# EAGLE library part 5008730806 (library 5008730806)
micro SD Card Connector Molex
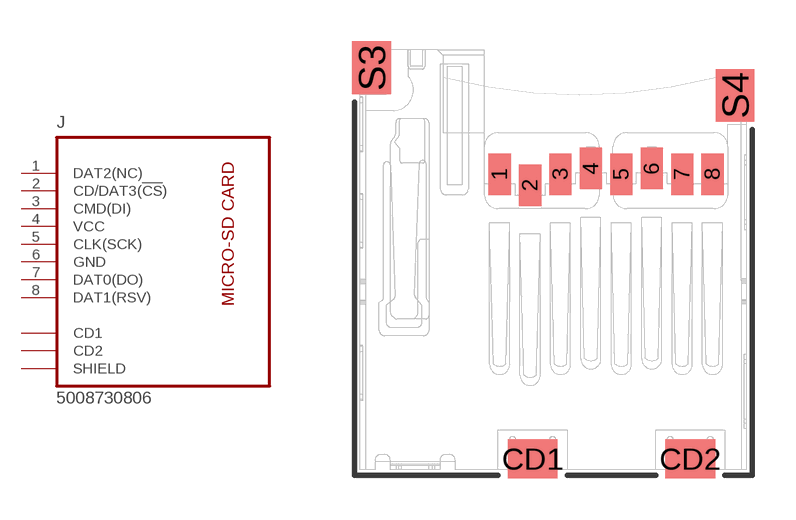
[diagram p0: symbol with the pads of 5008730806; footprint 5008730806]

Designator prefix J

## 5008730806 (Availability: Good; Description: Connector: for cards; SD Micro; push-push; SMT; gold plated; PIN: 8; MF: Molex; MP: 500873-0806; Package: None; Price: 2.47 USD)  [5008730806]
1  DAT2(NC)
2  CD/DAT3(!CS!)
3  CMD(DI)
4  VCC
5  CLK(SCK)
6  GND
7  DAT0(DO)
8  DAT1(RSV)
CD1  CD1
CD2  CD2
S3  SHIELD
S4  SHIELD

## Footprint 5008730806 (pad centres in mm)
TRANSFLSH R/A PUSH-PUSH SMD Molex
smd 0.8 x 1.5: 1 -1.94,10.7; 2 -0.84,10.3; 3 0.26,10.7; 4 1.36,10.9; 5 2.46,10.7; 6 3.56,10.9; 7 4.66,10.7; 8 5.76,10.7
smd 1.8 x 1.4: CD1 -0.75,0.4; CD2 4.95,0.4
smd 1.4 x 1.9: S3 -6.575,14.55; S4 6.575,13.55